# Altium footprint library PcbLib2.PcbLib: 8 footprints
Each footprint in its own frame and in the unit in brackets; x right, y up, seen from the top. Pads: shape width x height; smd on the part's side, far side on the other; paste and mask are expansions set on the pad; w line width, h text height; cw(c..) or ccw(c..) is an arc to the next point about the centre after c.
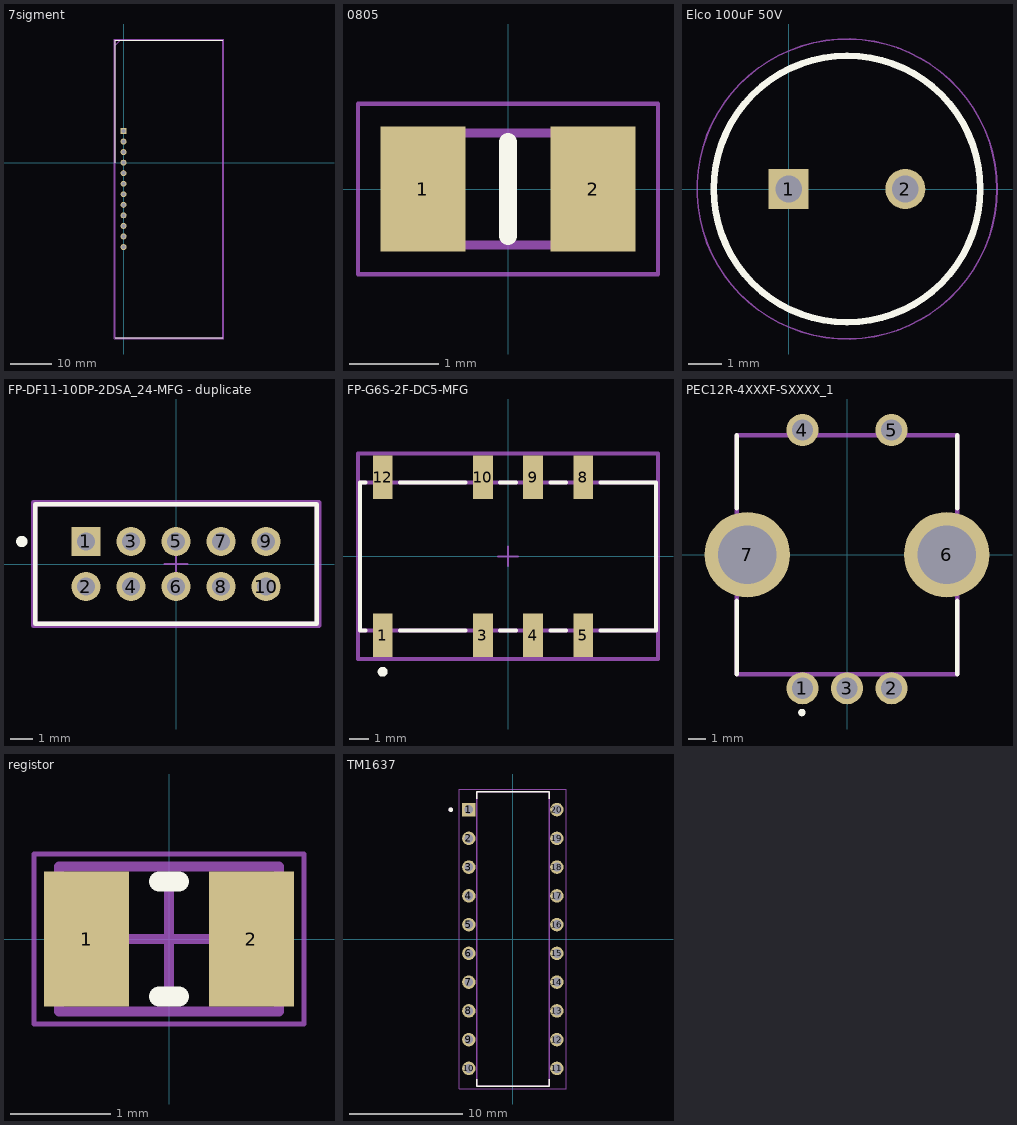
[diagram p0: the footprints below, top view; thin cyan lines are the x and y axes]

## 7sigment [mm]
pads (12):
  rect 1.425x1.425 hole 0.95: 1(0,7.62)
  round 1.425 hole 0.95: 2(0,5.08) 3(0,2.54) 4(0,0) 5(0,-2.54) 6(0,-5.08) 7(0,-7.62) 8(0,-10.16) 9(0,-12.7) 10(0,-15.24) 11(0,-17.78) 12(0,-20.32)
Top Overlay:
  lines w0.2: -2.025,-42.225 23.925,-42.225 ; -2.025,0 -2.025,29.525 23.925,29.525
Mechanical 13:
  lines w0.1: -2.025,28.255 -0.755,29.525 ; -2.025,-42.225 23.925,-42.225 23.925,29.525 -2.025,29.525 -2.025,-42.225
Mechanical 15:
  lines w0.05: -2.275,-42.475 24.175,-42.475 24.175,29.775 -2.275,29.775 -2.275,-42.475

## 0805 [mm]
pads (2):
  rect 0.95x1.4 smd: 1(-0.95,0) 2(0.95,0)
Top Overlay:
  lines w0.2: 0,-0.525 0,0.525
Mechanical 13:
  lines w0.1: -1,-0.625 -1,0.625 1,0.625 1,-0.625 -1,-0.625
Mechanical 15:
  lines w0.05: -1.675,-0.95 -1.675,0.95 1.675,0.95 1.675,-0.95 -1.675,-0.95
3D body "AC0805FR-7W2KL.stp": height 0.6, standoff 0, extent -1,-0.625 1,0.625

## Elco 100uF 50V [mm]
pads (2):
  rect 1.2x1.2 hole 0.8: 1(0,0)
  round 1.2 hole 0.8: 2(3.5,0)
Top Overlay:
  circle w0.2: c1.75,0 r4
Mechanical 13:
  circle w0.1: c1.75,0 r4
Mechanical 15:
  circle w0.05: c1.75,0 r4.5
3D body "ESH107M050AG3KA.stp": height 12.5, standoff -10, extent -2.5,-4.25 6,4.25

## FP-DF11-10DP-2DSA_24-MFG - duplicate [mm]
pads (10):
  rect 1.3x1.3 hole 0.8 paste-2539.97 mask+0: 1(-4,1)
  round 1.3 hole 0.8 paste-2539.97 mask+0: 2(-4,-1) 3(-2,1) 4(-2,-1) 5(0,1) 6(0,-1) 7(2,1) 8(2,-1) 9(4,1) 10(4,-1)
Top Overlay:
  circle w0.25: c-6.85,1 r0.125
  lines w0.2: -6.25,-2.65 6.25,-2.65 6.25,2.65 -6.25,2.65 -6.25,-2.65
Top 3D Body:
  lines w0.2: -6.25,-2.65 6.25,-2.65 6.25,2.65 -6.25,2.65 -6.25,-2.65
Top Courtyard:
  lines w0.2: -6.35,-2.75 6.35,-2.75 6.35,2.75 -6.35,2.75 -6.35,-2.75
Top Assembly:
  lines w0.2: -6.35,-2.75 6.35,-2.75 6.35,2.75 -6.35,2.75 -6.35,-2.75
  text ".Designator" at 0,0.189 h1
Top Component Center:
  lines w0.1: -0.5,0 0.5,0 ; 0,-0.5 0,0.5
3D body "Conn_Hirose_DF11-10DP-2DSA_24_eec.STEP": height 0.25, standoff 0, extent -6.35,-2.75 6.35,2.75

## FP-G6S-2F-DC5-MFG [mm]
pads (8):
  rect 1x2.2 smd paste+0 mask+0: 1(-6.35,-4) 3(-1.27,-4) 4(1.27,-4) 5(3.81,-4) 8(3.81,4) 9(1.27,4) 10(-1.27,4) 12(-6.35,4)
Top Overlay:
  circle w0.25: c-6.35,-5.85 r0.125
  lines w0.2: -7.225,-3.75 -7.5,-3.75 -7.5,3.75 -7.225,3.75 ; -5.475,-3.75 -2.145,-3.75 ; -5.475,3.75 -2.145,3.75 ; -0.395,-3.75 0.395,-3.75 ; -0.395,3.75 0.395,3.75 ; 2.145,-3.75 2.935,-3.75 ; 2.145,3.75 2.935,3.75 ; 4.685,-3.75 7.5,-3.75 7.5,3.75 4.685,3.75
Top 3D Body:
  lines w0.2: -7.5,-3.75 7.5,-3.75 7.5,3.75 -7.5,3.75 -7.5,-3.75
Top Courtyard:
  lines w0.2: -7.6,-5.2 7.6,-5.2 7.6,5.2 -7.6,5.2 -7.6,-5.2
Top Assembly:
  lines w0.2: -7.6,-5.2 7.6,-5.2 7.6,5.2 -7.6,5.2 -7.6,-5.2
  text ".Designator" at 0,0 h1
Top Component Center:
  lines w0.1: -0.5,0 0.5,0 ; 0,-0.5 0,0.5
3D body "Relay_Omron_G6S-2F-DC5_eec.STEP": height 0.25, standoff 0, extent -7.6,-5.2 7.6,5.2

## PEC12R-4XXXF-SXXXX_1 [mm]
pads (7):
  round 1.8 hole 1.2: 1(-2.5,-7.5) 2(2.5,-7.5) 3(0,-7.5) 4(-2.5,7) 5(2.5,7)
  round 4.8 hole 3.28: 6(5.6,0) 7(-5.6,0)
Top Overlay:
  circle w0.254: c-2.533,-8.863 r0.082
  lines w0.254: -6.2,-6.7 -6.2,-2.6 ; -6.2,2.6 -6.2,6.7 ; 6.2,-6.7 6.2,-2.6 ; 6.2,2.6 6.2,6.7
Mechanical 13:
  lines w0.254: -6.2,-6.7 6.2,-6.7 6.2,6.7 -6.2,6.7 -6.2,-6.7
3D body "PEC11R-4225F-S0024.stp": height 31.51, standoff -3.69, extent -7.005,-7.751 6.995,7.149

## registor [mm] "Chip Resistor, 2-Leads, Body 2.00x1.25mm, IPC High Density"
height 0.5
pads (2):
  rect 0.85x1.35 smd: 1(-0.825,0) 2(0.825,0)
Top Overlay:
  lines w0.2: -0.1,-0.575 0.1,-0.575 ; -0.1,0.575 0.1,0.575
Mechanical 13:
  lines w0.1: -1.1,-0.725 -1.1,0.725 1.1,0.725 1.1,-0.725 -1.1,-0.725
Mechanical 15:
  lines w0.05: -1.35,-0.85 -1.35,0.85 1.35,0.85 1.35,-0.85 -1.35,-0.85
  lines w0.1: -0.5,0 0.5,0 ; 0,-0.5 0,0.5
3D body: height 0.5, standoff 0, extent -0.8,-0.725 0.8,0.725
3D body: height 0.5, standoff 0, extent -1.1,-0.725 -0.8,0.725
3D body: height 0.5, standoff 0, extent 0.8,-0.725 1.1,0.725

## TM1637 [mm]
pads (20):
  rect 1.19x1.19 hole 0.79: 1(-3.89,11.43)
  round 1.19 hole 0.79: 2(-3.89,8.89) 3(-3.89,6.35) 4(-3.89,3.81) 5(-3.89,1.27) 6(-3.89,-1.27) 7(-3.89,-3.81) 8(-3.89,-6.35) 9(-3.89,-8.89) 10(-3.89,-11.43) 11(3.89,-11.43) 12(3.89,-8.89) 13(3.89,-6.35) 14(3.89,-3.81) 15(3.89,-1.27) 16(3.89,1.27) 17(3.89,3.81) 18(3.89,6.35) 19(3.89,8.89) 20(3.89,11.43)
Top Overlay:
  circle w0.2: c-5.485,11.43 r0.1
  lines w0.127: -3.2,-12.375 -3.2,-13 3.2,-13 3.2,-12.375 ; -3.2,12.375 -3.2,13 3.2,13 3.2,12.375
Mechanical 13:
  circle w0.2: c-5.485,11.43 r0.1
  lines w0.127: -3.2,-13 3.2,-13 3.2,13 -3.2,13 -3.2,-13
Mechanical 15:
  lines w0.05: -4.735,-13.25 -4.735,13.25 4.735,13.25 4.735,-13.25 -4.735,-13.25
3D body "step_temp.STEP": height 4.31, standoff -3.6, extent -4.03,-13 4.03,13